# Altium schematic symbol library K_V0006.SCHLIB: 6 symbols
Pins are listed as number, name and electrical type; pins without a type are passive.

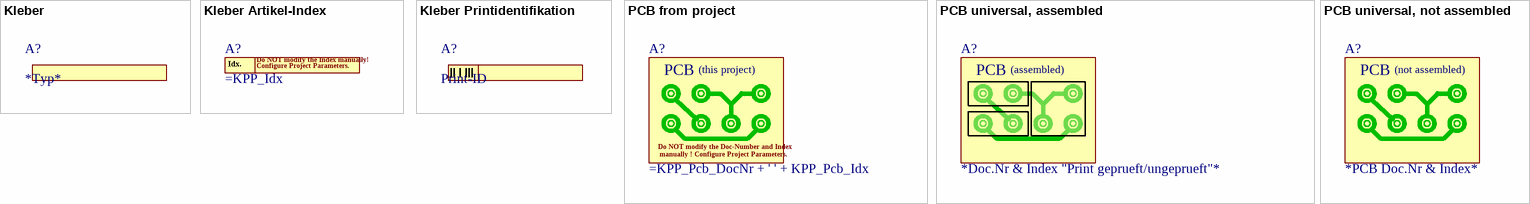
[diagram p0: symbols Kleber to PCB universal, not assembled]

## Kleber
designator A?, comment *Typ*  (mechanical)
Kleber allgemein; Notes: See assembly instructions

## Kleber Artikel-Index
designator A?  (mechanical)
Etiquette Article-Index; Notes: Positioning and design see assembly instructions
text: Do NOT modify the Index manually!; Idx.; Configure Project Parameters.

## Kleber Printidentifikation
designator A?, comment Print-ID  (mechanical)
Etiquette PCB Identification; Notes: Positioning and design see assembly instructions

## PCB from project
designator A?  (mechanical)
PCB not assembled
2 alternate drawings of the same symbol
text: PCB; (this project); Do NOT modify the Doc-Number and Index; manually ! Configure Project Parameters.

## PCB universal, assembled
designator A?, comment *Doc.Nr & Index "Print geprueft/ungeprueft"*  (mechanical)
Leiterplatte allgemein, bestückt
2 alternate drawings of the same symbol
text: PCB; (assembled)

## PCB universal, not assembled
designator A?, comment *PCB Doc.Nr & Index*  (mechanical)
Leiterplatte allgemein, nicht bestückt
2 alternate drawings of the same symbol
text: PCB; (not assembled)